# EAGLE library part AUDIO_JACKS_0.25_INCH_STEREOSW3C (library DMFX-1_v1.0)
1/4" stereo jack, switched, with chrome ferrule and straight PCB pins, mounting nut included
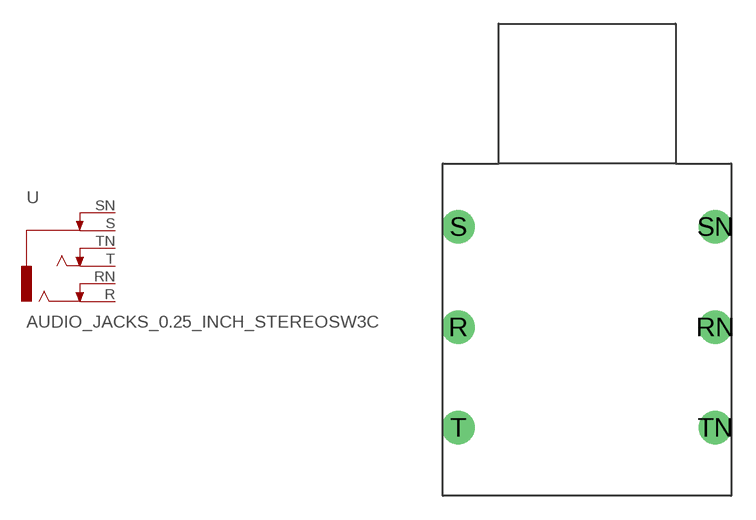
[diagram p6: symbol with the pads of AUDIO_JACKS_0.25_INCH_NEUTRIK-NMJ6HCD2; footprint AUDIO_JACKS_0.25_INCH_NEUTRIK-NMJ6HCD2]

Designator prefix -

## AUDIO_JACKS_0.25_INCH_STEREOSW3C  [AUDIO_JACKS_0.25_INCH_NEUTRIK-NMJ6HCD2]
R  R  pas
RN  RN  pas
S  S  pas
SN  SN  pas
T  T  pas
TN  TN  pas

## Footprint AUDIO_JACKS_0.25_INCH_NEUTRIK-NMJ6HCD2 (pad centres in mm)
1/4" stereo jack, switched, with chrome ferrule and straight PCB pins, mounting nut included
drill 1.4: R -8.115,-10.35; RN 8.115,-10.35; S -8.115,-4; SN 8.115,-4; T -8.115,-16.7; TN 8.115,-16.7